# EAGLE library part M20-9720345 (library M20-9720345)
2.54mm (0.1") Pitch DIL Vertical Throughboard Pin Header, 7mm mating pin height, gold (hi-temp mould), 3+3 contacts Source: Datasheet <https://cdn.harwin.com/pdfs/M20-972.pdf>
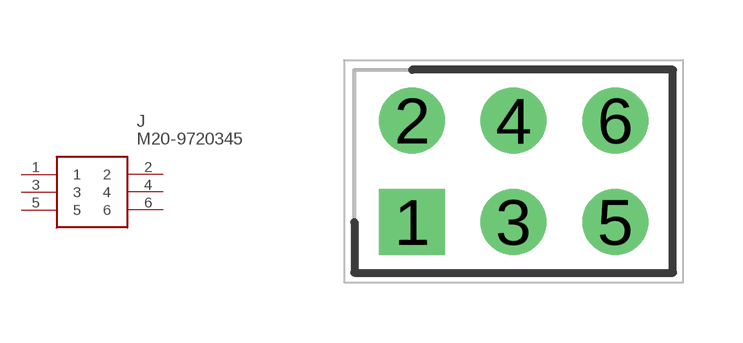
[diagram p0: symbol with the pads of HDRV6W64P254_2X3_762X508X864P; footprint HDRV6W64P254_2X3_762X508X864P]

Designator prefix J

## M20-9720345 (Description: 2.54mm (0.1") Pitch DIL Vertical Throughboard Pin Header, 7mm mating pin height, gold (hi-temp mould), 3+3 contacts; Height: 8.64mm; Manufacturer_Name: Harwin; Manufacturer_Part_Number: M20-9720345; Mouser_Part_Number: 855-M20-9720345; Mouser_Price-Stock: https://www.mouser.co.uk/ProductDetail/Harwin/M20-9720345?qs=vF78I%252BjhbY8b2N4EUBH%2Fyg%3D%3D)  [HDRV6W64P254_2X3_762X508X864P]
1  1
2  2
3  3
4  4
5  5
6  6

## Footprint HDRV6W64P254_2X3_762X508X864P (pad centres in mm)
jumper3x2
drill 1.1 pad 1.65 square: 1 0,0
drill 1.1 pad 1.65: 2 0,2.54; 3 2.54,0; 4 2.54,2.54; 5 5.08,0; 6 5.08,2.54